# Altium footprint library 0533981271.PcbLib: 1 footprints
Each footprint in its own frame and in the unit in brackets; x right, y up, seen from the top. Pads: shape width x height; smd on the part's side, far side on the other; paste and mask are expansions set on the pad; w line width, h text height; cw(c..) or ccw(c..) is an arc to the next point about the centre after c.
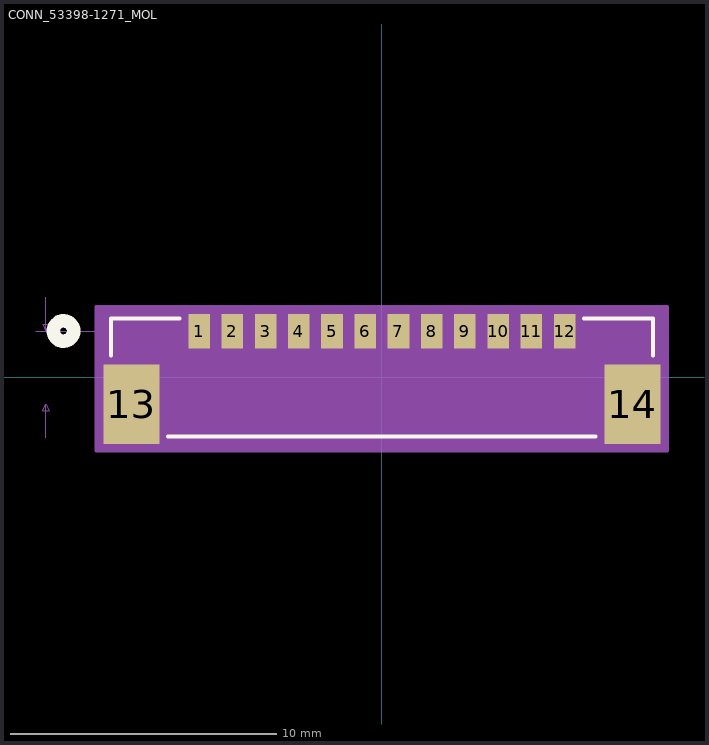
[diagram p0: the footprint, top view; thin cyan lines are the x and y axes]

## CONN_53398-1271_MOL [mil]
pads (14):
  rect 32x51 smd paste+0 mask+0: 1(-270.67,68.72) 2(-221.46,68.72) 3(-172.24,68.72) 4(-123.03,68.72) 5(-73.82,68.72) 6(-24.61,68.72) 7(24.61,68.72) 8(73.82,68.72) 9(123.03,68.72) 10(172.24,68.72) 11(221.46,68.72) 12(270.67,68.72)
  rect 83x118 smd: 13(-371.06,-39.55) 14(371.06,-39.55)
Top Overlay:
  circle w20: c-471.5,68.72 r15
  lines w6: -401.5,32.55 -401.5,87.5 -299.77,87.5 ; -316.46,-87.5 316.46,-87.5 ; 299.77,87.5 401.5,87.5 401.5,32.55
Bottom Overlay:
  circle w20: c-471.5,68.72 r15
Mechanical 5:
  region: -411.5,97.5 411.5,97.5 411.5,-97.5 -411.5,-97.5
Mechanical 7:
  lines w1: -512.56,68.72 0,68.72 ; -497.56,-89.55 -497.56,-39.55 ; -497.56,118.72 -497.56,68.72 ; -497.56,-39.55 -502.56,-49.55 -492.56,-49.55 -497.56,-39.55 ; -497.56,68.72 -502.56,78.72 -492.56,78.72 -497.56,68.72
Mechanical 13:
  lines w1: -396.5,-82.5 396.5,-82.5 396.5,82.5 -396.5,82.5 -396.5,-82.5
Mechanical 15:
  region: 422.56,104.22 -422.56,104.22 -422.56,-108.55 422.56,-108.55
  lines w6: -422.56,-108.55 -422.56,104.22 422.56,104.22 422.56,-108.55 -422.56,-108.55
3D body: height 10, standoff 0, extent 0,0 10,10